# EAGLE library part ESP-M2 (library esp8266modules)
ESP8285 Module - M2
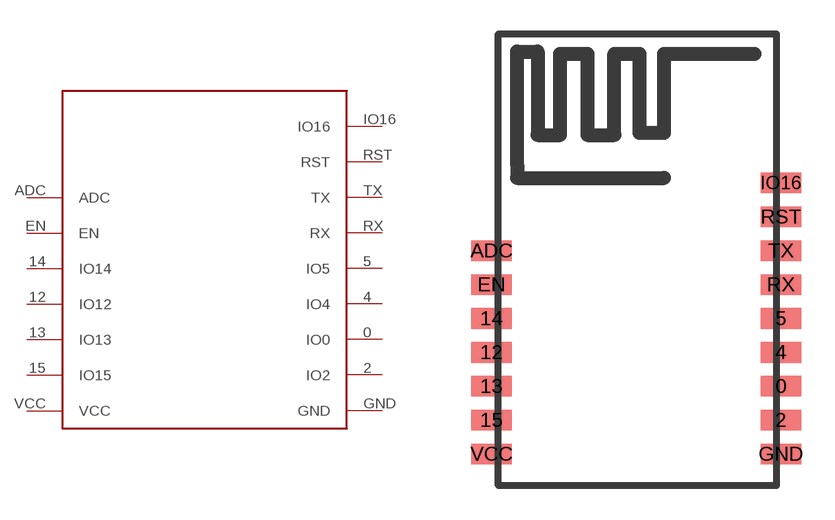
[diagram p18: symbol with the pads of ESP-M2; footprint ESP-M2]

Designator prefix -

## ESP-M2  [ESP-M2]
0  IO0
2  IO2
4  IO4
5  IO5
12  IO12
13  IO13
14  IO14
15  IO15
ADC  ADC
EN  EN
GND  GND
IO16  IO16
RST  RST
RX  RX
TX  TX
VCC  VCC

## Footprint ESP-M2 (pad centres in mm)
ESP8285 Module Model M2
smd 1.778 x 0.914: 0 6,-6.4; 2 6,-7.9; 4 6,-4.9; 5 6,-3.4; 12 -6.8,-4.9; 13 -6.8,-6.4; 14 -6.8,-3.4; 15 -6.8,-7.9; ADC -6.8,-0.4; EN -6.8,-1.9; GND 6,-9.4; IO16 6,2.6; RST 6,1.1; RX 6,-1.9; TX 6,-0.4; VCC -6.8,-9.4